# EAGLE library part 6871XX183622_687110183622 (library 68611414422)
WR-FPC 0.50 mm SMT ZIF Horizontal Top Contact Low Profile KIND PROPERTIES Pitch 0.5 mm MATERIAL PROPERTIES Insulator Material LCP Contact Material Phosphor Bronze Contact Plating 120 (µ") Tin over 30 (µ") Nickel Contact Type Stamped Solder Tabs Brass <https://www.we-online.com/catalog/media/o83990v209%20Family_WR-FPC_6871xx183622.jpg> Details see: https://www.we-online.com/catalog/en/FPC_0_5_SMT_ZIF_HORIZONTAL_TOP_CONTACT_LOW_PROFILE_6871xx183622/ Updated by Ella Wu 2020-08-26 2020(C) Wurth Elektronik
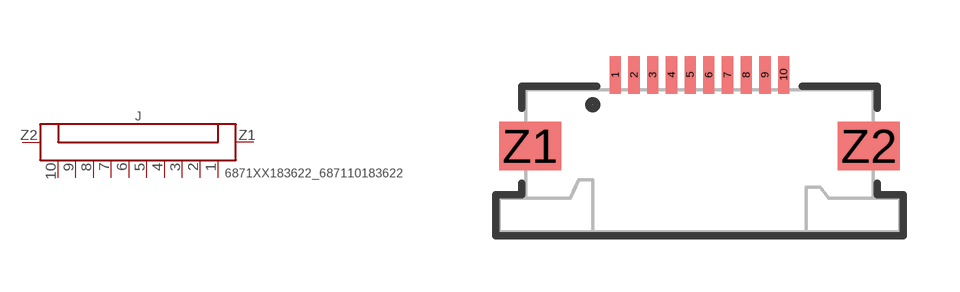
[diagram p243: symbol with the pads of 687110183622; footprint 687110183622]

Designator prefix J

## 6871XX183622_687110183622 (CONTACT-RESISTANCE: 30mOhm; DATASHEET-URL: https://www.we-online.com/catalog/datasheet/687110183622.pdf; IR: 0.4A; L: 10.7mm; PACKAGING: Tape and Reel; PART-NUMBER: 687110183622; PINS: 10; PITCH: 0.5mm; TYPE: Horizontal; VALUE: 687110183622; WORKING-VOLTAGE: 50V(AC))  [687110183622]
1  1  pas
2  2  pas
3  3  pas
4  4  pas
5  5  pas
6  6  pas
7  7  pas
8  8  pas
9  9  pas
10  10  pas
Z1  Z1  pas
Z2  Z2  pas

## Footprint 687110183622 (pad centres in mm)
WR-FPC 0.50 mm SMT ZIF Horizontal Top Contact Low Profile ,10Pins
smd 0.3 x 1: 1 -2.25,2.3; 2 -1.75,2.3; 3 -1.25,2.3; 4 -0.75,2.3; 5 -0.25,2.3; 6 0.25,2.3; 7 0.75,2.3; 8 1.25,2.3; 9 1.75,2.3; 10 2.25,2.3
smd 1.65 x 1.3: Z1 -4.525,0.4; Z2 4.525,0.4